# Altium schematic symbol library QUTMS_JSTHeaderLibrary.SchLib: 6 symbols
Pins are listed as number, name and electrical type; pins without a type are passive.

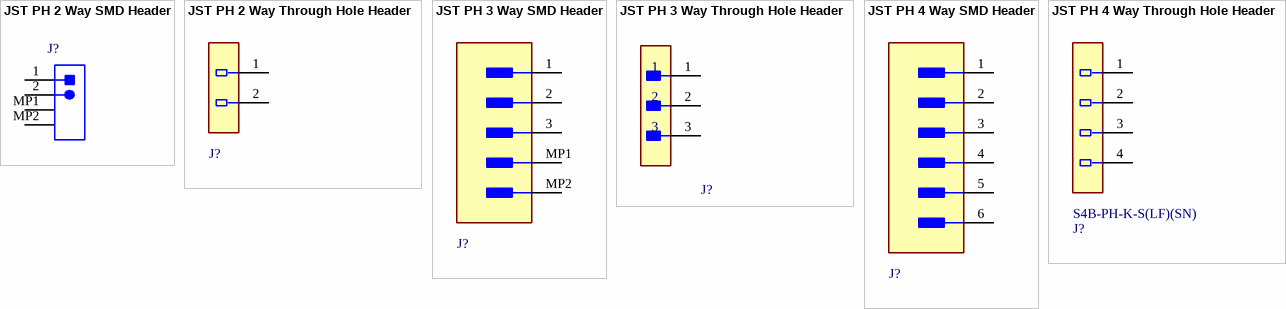
[diagram p0: symbols JST PH 2 Way SMD Header to JST PH 4 Way Through Hole Header]

## JST PH 2 Way SMD Header
designator J?  (value not drawn)
PartNumber: S2B-PH-SM4-TB(LF)(SN); Current Rating: 3 A; RoHSCompliant: True; Min Operating Temperature: -65degC; Width: 2.34 mm; Pins: 40; ComponentLink1Description: Manufacturer URL; ComponentLink2Description: Datasheet; DatasheetVersion: Dec-12; ComponentLink1URL: http://www.jst.com/home2.html; Contact Plating: Tin; ComponentLink2URL: http://www.jst-mfg.com/product/pdf/eng/ePH.pdf; PackageReference: S2B-PH-SM4-TB(LF)(SN)-2; Mount: Through Hole; Contact Finish: Lead; Length: 101.19 mm; Radiation Hardening: No; Lead Pitch: 0.1 inch; Max Operating Temperature: 105degC; Colour: Black; Package Quantity: 100; Height: 8.13 mm; Packaging: Bulk; PackageDescription: Male Header, Pitch 2 mm, 1 x 2 Position, Height 5.5 mm; Contact Material: Bronze
footprint JST- S2B-PH-SM4-TB(LF)(SN)-2_V
pins: 1, 2, MP1, MP2

## JST PH 2 Way Through Hole Header
designator J?  (value not drawn)
pins: 1, 2

## JST PH 3 Way SMD Header
designator J?  (value not drawn)
pins: 1, 2, 3, MP1 MNT 1, MP2 MNT 2

## JST PH 3 Way Through Hole Header
designator J?  (value not drawn)
pins: 1, 2, 3

## JST PH 4 Way SMD Header
designator J?  (value not drawn)
pins: 1, 2, 3, 4, 5 MNT 1, 6 MNT 2

## JST PH 4 Way Through Hole Header
designator J?  Part Number: S4B-PH-K-S(LF)(SN)
Manufacturer: JST; helpURL: https://upverter.com/upn/revision/a04d3038e6c69606/; ComponentLink2Description: Datasheet; Temperature: -25°C to +85°C; Package: HDR4; Supplier 2: Mouser; Price: 0.141609370397; Supplier 1: Digi-Key; ComponentLink1URL: https://upverter.com/upn/revision/a04d3038e6c69606/; Supplier Part Number 1: 455-1721-ND; ComponentLink1Description: Upverter; ComponentLink2URL: http://www.jst-mfg.com/product/pdf/eng/ePH.pdf; RoHS: TRUE; Temperature Range High: +85°C; Digikey Description: CONN HEADER PH SIDE 4POS 2MM; Digikey Part Number: 455-1721-ND; Temperature Range Low: -25°C; Lead Free: yes
footprint JST_S4B-PH-K-S_LF_SN_0
pins: 1, 2, 3, 4